# Altium integrated library AD7302BNZ.IntLib: 1 symbol
Pins are listed as number, name and electrical type; pins without a type are passive.

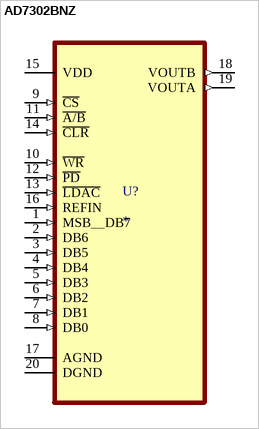
[diagram p0: symbol AD7302BNZ]

## AD7302BNZ
designator U?
2.7 V to 5.5 V, Parallel Input Dual Voltage Output 8-Bit DAC; MP: AD7302BNZ; MF: Analog Devices; Value: *; Package: PDIP-20 Analog Devices; Purchase-URL: https://pricing.snapeda.com/search/part/AD7302BNZ/?ref=eda; Price: None; Check_prices: https://www.snapeda.com/parts/AD7302BNZ/Analog+Devices+Inc./view-part/?ref=eda; Availability: In Stock; SnapEDA_Link: https://www.snapeda.com/parts/AD7302BNZ/Analog+Devices+Inc./view-part/?ref=snap
footprint DIP254P762X533-20
pins: 1 MSB__DB7 (in), 2 DB6 (in), 3 DB5 (in), 4 DB4 (in), 5 DB3 (in), 6 DB2 (in), 7 DB1 (in), 8 DB0 (in), 9 ~{CS} (in), 10 ~{WR} (in), 11 ~{A/B} (in), 12 ~{PD} (in), 13 ~{LDAC} (in), 14 ~{CLR} (in), 15 VDD (power), 16 REFIN (in), 17 AGND, 18 VOUTB (out), 19 VOUTA (out), 20 DGND